# EAGLE library part LMH6321 (library buffers)
National Semiconductor LMH6321 300 mA High Speed Buffer with Adjustable Current Limit
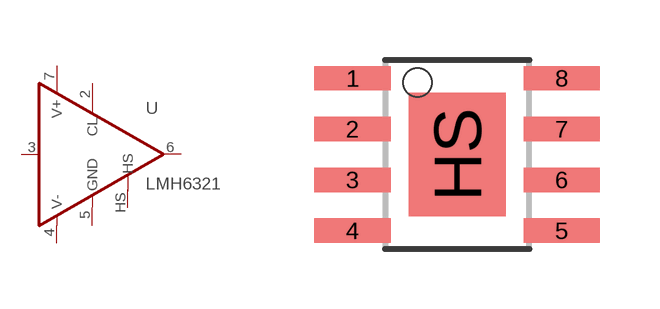
[diagram p0: symbol with the pads of PSOP-8; footprint PSOP-8]

Designator prefix U

## LMH6321M  [PSOP-8]
2  CL  in
3  IN  in
4  V-  pwr
5  GND  pwr
6  OUT  pas
7  V+  pwr
HS  HS  pwr

## Footprint PSOP-8 (pad centres in mm)
Modified SOIC-8, with heat sink pad underneath chip, connected to V-
smd 1.905 x 0.61: 1 -2.616,1.905; 2 -2.616,0.635; 3 -2.616,-0.635; 4 -2.616,-1.905; 5 2.616,-1.905; 6 2.616,-0.635; 7 2.616,0.635; 8 2.616,1.905
smd 2.413 x 3.099: HS 0,0